# Altium footprint library PcbLib2.PcbLib: 1 footprints
Each footprint in its own frame and in the unit in brackets; x right, y up, seen from the top. Pads: shape width x height; smd on the part's side, far side on the other; paste and mask are expansions set on the pad; w line width, h text height; cw(c..) or ccw(c..) is an arc to the next point about the centre after c.
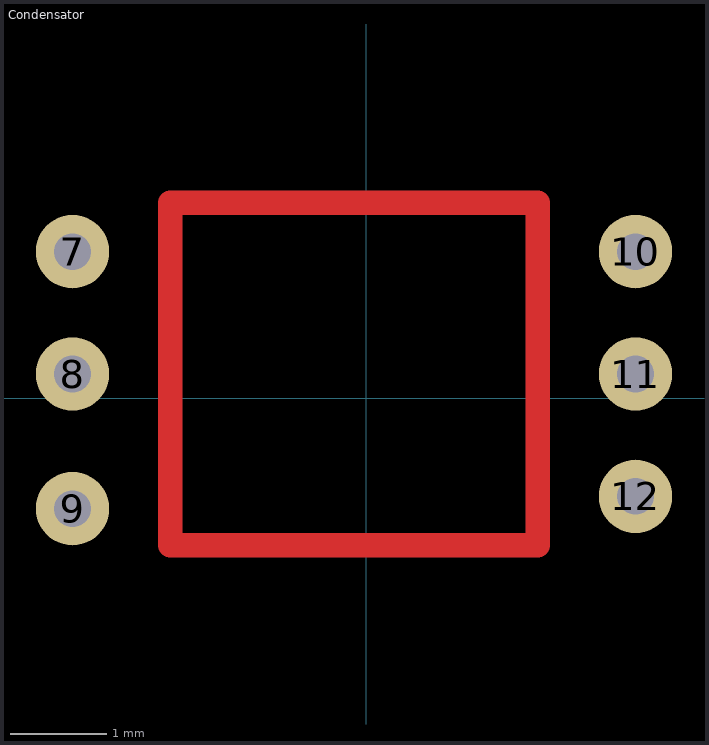
[diagram p0: the footprint, top view; thin cyan lines are the x and y axes]

## Condensator [mil]
pads (6):
  round 30 hole 15: 7(-120,60) 8(-120,10) 9(-120,-45) 10(110,60) 11(110,10) 12(110,-40)
Top Layer:
  lines w10: -80,-60 -80,80 70,80 70,-60 -80,-60